# Altium footprint library TE_640455-4.PcbLib: 1 footprints
Each footprint in its own frame and in the unit in brackets; x right, y up, seen from the top. Pads: shape width x height; smd on the part's side, far side on the other; paste and mask are expansions set on the pad; w line width, h text height; cw(c..) or ccw(c..) is an arc to the next point about the centre after c.
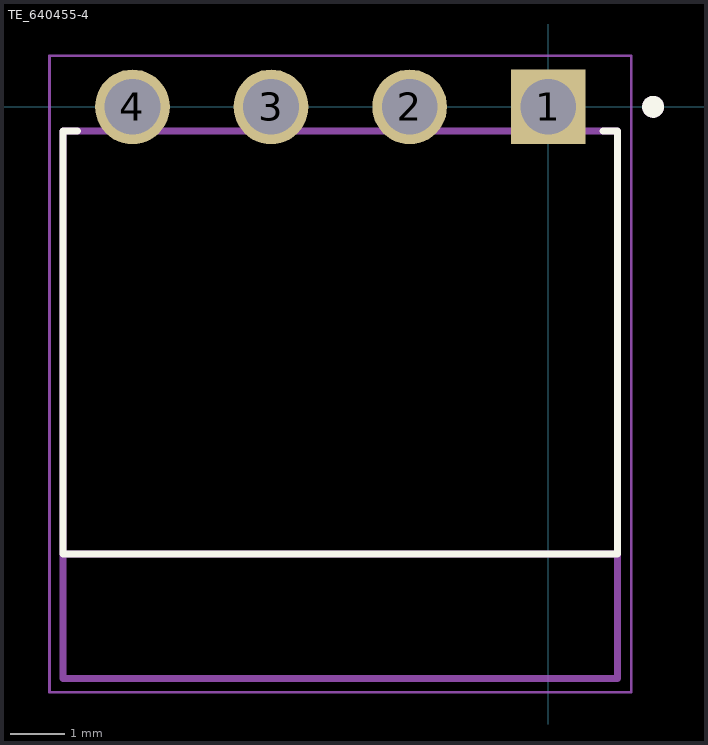
[diagram p0: the footprint, top view; thin cyan lines are the x and y axes]

## TE_640455-4 [mm]
pads (4):
  rect 1.37x1.37 / inner round 1.37 / far side rect 1.37x1.37 hole 1.02 mask+0.102: 1(0,0)
  round 1.37 hole 1.02 mask+0.102: 2(-2.54,0) 3(-5.08,0) 4(-7.62,0)
Top Overlay:
  circle w0.2: c1.92,0 r0.1
  lines w0.127: -8.625,-0.445 -8.89,-0.445 -8.89,-8.195 1.27,-8.195 1.27,-0.445 1.005,-0.445
Assembly Top:
  circle w0.2: c1.92,0 r0.1
  lines w0.127: -8.89,-8.195 -8.89,-0.445 1.27,-0.445 1.27,-8.195 ; -8.89,-8.195 1.27,-8.195 ; -8.89,-8.195 -8.89,-10.475 1.27,-10.475 1.27,-8.195
Courtyard Top:
  lines w0.05: -9.14,-10.725 -9.14,0.935 1.52,0.935 1.52,-10.725 -9.14,-10.725
3D body "step_temp.STEP": height 2.86, standoff -6.41, extent -8.89,-9.83 1.27,0.94